# Altium schematic symbol library Turck FK.Schlib: 1 symbol
Pins are listed as number, name and electrical type; pins without a type are passive.

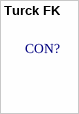
[diagram p0: symbol Turck FK]

## Turck FK
designator CON?  (mechanical)